# Altium integrated library ledclock-yassinn-V1.00.IntLib: 13 symbols
Pins are listed as number, name and electrical type; pins without a type are passive.

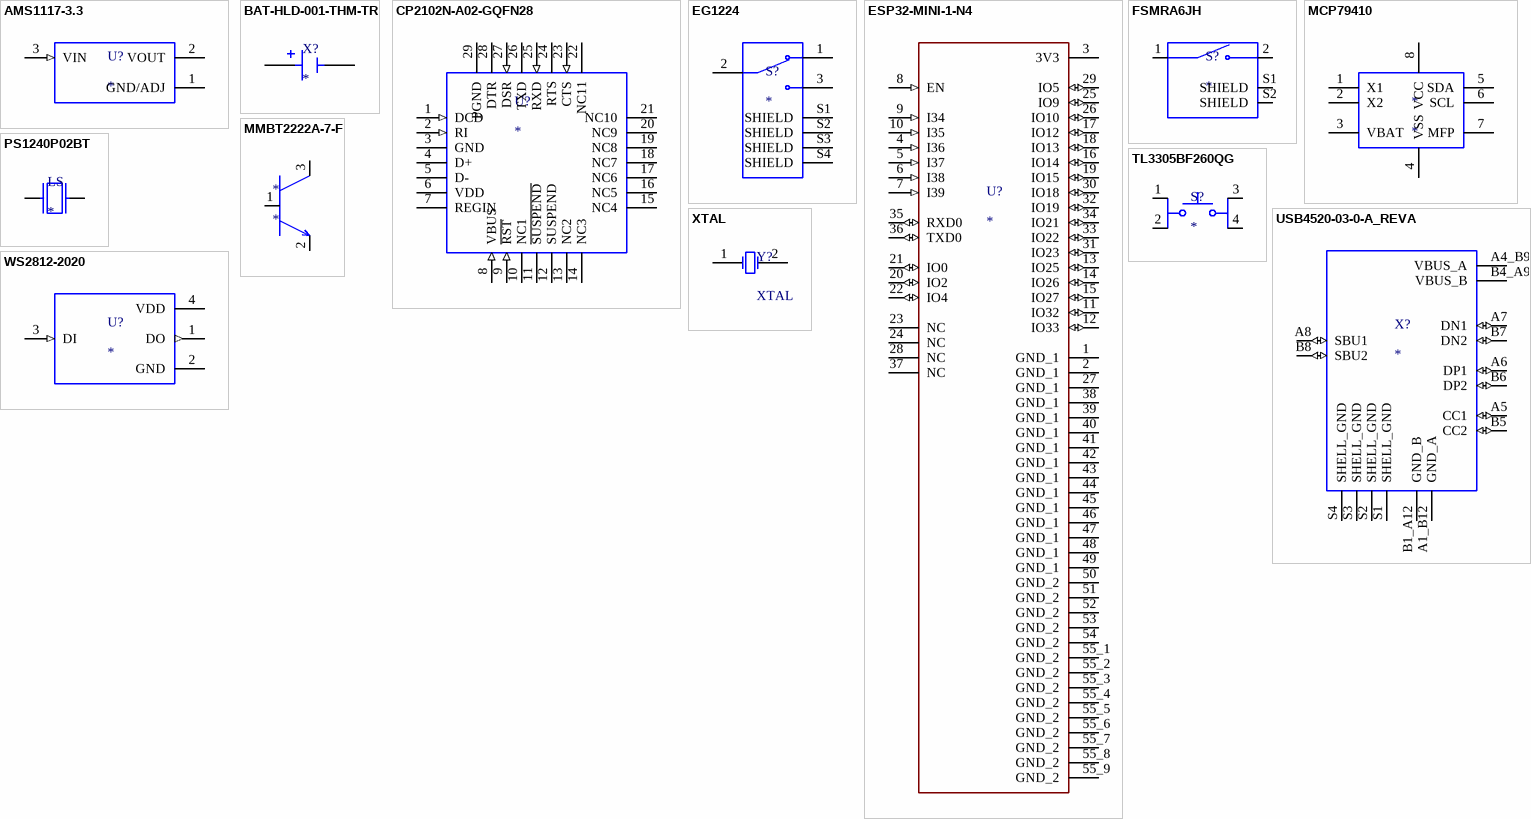
[diagram p0: symbols AMS1117-3.3 to XTAL]

## AMS1117-3.3
designator U?
Sot223/Pkg 1-Amp 3.3-Volt Low Drop Out Voltage Regulatator; MF: Advanced Monolithic Systems; MP: AMS1117-3.3; Package: SOT-223 Seeed Technology; Value: *; Check_prices: https://www.snapeda.com/parts/AMS1117-3.3/Advanced+Monolithic+Systems/view-part/?ref=eda; Price: None; Availability: Not in stock; SnapEDA_Link: https://www.snapeda.com/parts/AMS1117-3.3/Advanced+Monolithic+Systems/view-part/?ref=snap
footprint SOT229P700X180-4N (Voltage Reg)
pins: 1 GND/ADJ (power), 2 VOUT (power), 3 VIN (in)

## BAT-HLD-001-THM-TR
designator X?
Holder for CR2032 and CR2025 Batteries, Through-Hole Mount, Tape and Reel Packaging; MF: Linx Technologies; MP: BAT-HLD-001-THM-TR; Package: None; Price: None; Availability: In Stock; Check_prices: https://www.snapeda.com/parts/BAT-HLD-001-THM-TR/Linx/view-part/90434/?ref=eda; SnapEDA_Link: https://www.snapeda.com/parts/BAT-HLD-001-THM-TR/Linx/view-part/90434/?ref=snap; Value: *
footprint CONNSMDBATHLD001 (Batt-Holder)
pins: N, P1 P, P2 P, P3 P, P4 P

## CP2102N-A02-GQFN28
designator U?
footprint QFN50P500X500X80-29N
pins: 1 DCD (in), 2 RI (in), 3 GND, 4 D+, 5 D-, 6 VDD, 7 REGIN, 8 VBUS (in), 9 ~{RST} (in), 10 NC1, 11 ~{SUSPEND}, 12 SUSPEND, 13 NC2, 14 NC3, 15 NC4, 16 NC5, 17 NC6, 18 NC7, 19 NC8, 20 NC9, 21 NC10, 22 NC11, 23 CTS (in), 24 RTS, 25 RXD (in), 26 TXD, 27 DSR (in), 28 DTR, 29 PGND

## EG1224
designator S?
Slide Switch SPDT Through Hole, Right Angle; MF: E-Switch; MP: EG1224; SnapEDA_Link: https://www.snapeda.com/parts/EG1224/E-Switch/view-part/?ref=snap; Package: None; Value: *; Check_prices: https://www.snapeda.com/parts/EG1224/E-Switch/view-part/?ref=eda
footprint SW_EG1224
pins: 1, 2, 3, S1 SHIELD, S2 SHIELD, S3 SHIELD, S4 SHIELD

## ESP32-MINI-1-N4
designator U?
Bluetooth, WiFi 802.11b/g/n, Bluetooth v4.2 +EDR, Class 1, 2 and 3 Transceiver Module 2.412GHz ~ 2.484GHz Integrated, Trace Chassis Mount; MF: Espressif Systems; MP: ESP32-MINI-1-N4; SnapEDA_Link: https://www.snapeda.com/parts/ESP32-MINI-1-N4/Espressif+Systems/view-part/?ref=snap; Package: Module Espressif Systems; Value: *; Check_prices: https://www.snapeda.com/parts/ESP32-MINI-1-N4/Espressif+Systems/view-part/?ref=eda
footprint XCVR_ESP32-MINI-1-N4
pins: 1 GND_1 (power), 2 GND_1 (power), 3 3V3 (power), 4 I36 (in), 5 I37 (in), 6 I38 (in), 7 I39 (in), 8 EN (in), 9 I34 (in), 10 I35 (in), 11 IO32 (io), 12 IO33 (io), 13 IO25 (io), 14 IO26 (io), 15 IO27 (io), 16 IO14 (io), 17 IO12 (io), 18 IO13 (io), 19 IO15 (io), 20 IO2 (io), 21 IO0 (io), 22 IO4 (io), 23 NC, 24 NC, 25 IO9 (io), 26 IO10 (io), 27 GND_1 (power), 28 NC, 29 IO5 (io), 30 IO18 (io), 31 IO23 (io), 32 IO19 (io), 33 IO22 (io), 34 IO21 (io), 35 RXD0 (io), 36 TXD0 (io), 37 NC, 38 GND_1 (power), 39 GND_1 (power), 40 GND_1 (power), 41 GND_1 (power), 42 GND_1 (power), 43 GND_1 (power), 44 GND_1 (power), 45 GND_1 (power), 46 GND_1 (power), 47 GND_1 (power), 48 GND_1 (power), 49 GND_1 (power), 50 GND_2 (power), 51 GND_2 (power), 52 GND_2 (power), 53 GND_2 (power), 54 GND_2 (power), 55_1 GND_2 (power), 55_2 GND_2 (power), 55_3 GND_2 (power), 55_4 GND_2 (power), 55_5 GND_2 (power), 55_6 GND_2 (power), 55_7 GND_2 (power), 55_8 GND_2 (power), 55_9 GND_2 (power)

## FSMRA6JH
designator S?
Tactile Switch SPST-NO Side Actuated Through Hole, Right Angle; MF: TE Connectivity; MP: FSMRA6JH; SnapEDA_Link: https://www.snapeda.com/parts/FSMRA6JH/TE+Connectivity+ALCOSWITCH+Switches/view-part/?ref=snap; Package: None; Value: *; Check_prices: https://www.snapeda.com/parts/FSMRA6JH/TE+Connectivity+ALCOSWITCH+Switches/view-part/?ref=eda
footprint SW_FSMRA6JH
pins: 1 COM, 2 NO, S1 SHIELD, S2 SHIELD

## MCP79410
designator *
footprint SOIC-SN8 (RTC)
pins: 1 X1, 2 X2, 3 VBAT, 4 VSS, 5 SDA, 6 SCL, 7 MFP, 8 VCC

## MMBT2222A-7-F
designator *
footprint SOT103P240X110-3N (transistor)
pins: 1 B, 2 E, 3 C

## PS1240P02BT
designator LS
Buzzers Transducer, Externally Driven Piezo 3V 4kHz 60dB @ 3V, 10cm Through Hole PC Pins; MP: PS1240P02BT; MF: TDK; Availability: Unavailable; Package: 2020 TDK; Value: *; Price: None; SnapEDA_Link: https://www.snapeda.com/parts/PS1240P02BT/TDK/view-part/53420/?ref=snap
footprint XDCR_PS1240P02BT (Buzzer)
pins: 1, 2

## TL3305BF260QG
designator S?
Tactile Switch SPST-NO Top Actuated Surface Mount; MP: TL3305BF260QG; MF: E-Switch; Value: *; Purchase-URL: https://pricing.snapeda.com/search/part/TL3305BF260QG/?ref=eda; Package: None; Digi-Key_Part_Number: EG5354TR-ND
footprint SW_TL3305BF260QG
pins: 1, 2, 3, 4

## USB4520-03-0-A_REVA
designator X?
USB-C (USB TYPE-C) USB 2.0 Receptacle Connector 24 (16+8 Dummy) Position Board Edge, Cutout; Surface Mount; Through Hole, Right Angle; MP: USB4520-03-0-A; MF: Global Connector Technology; Value: *; Check_prices: https://www.snapeda.com/parts/USB4520-03-0-A/Global+Connector+Technology/view-part/?ref=eda; Package: None; Price: None; Availability: In Stock; Purchase-URL: https://pricing.snapeda.com/search/part/USB4520-03-0-A/?ref=eda; SnapEDA_Link: https://www.snapeda.com/parts/USB4520-03-0-A/Global+Connector+Technology/view-part/?ref=snap
footprint GCT_USB4520-03-0-A_REVA (USB-C)
pins: A1_B12 GND_A (power), A4_B9 VBUS_A (power), A5 CC1 (io), A6 DP1 (io), A7 DN1 (io), A8 SBU1 (io), B1_A12 GND_B (power), B4_A9 VBUS_B (power), B5 CC2 (io), B6 DP2 (io), B7 DN2 (io), B8 SBU2 (io), S1 SHELL_GND (power), S2 SHELL_GND (power), S3 SHELL_GND (power), S4 SHELL_GND (power)

## WS2812-2020
designator U?
Intelligent control LED light source, SMD-4; MP: WS2812-2020; MF: Worldsemi; Availability: Not in stock; Package: Package; SnapEDA_Link: https://www.snapeda.com/parts/WS2812-2020/Worldsemi/view-part/?ref=snap; Check_prices: https://www.snapeda.com/parts/WS2812-2020/Worldsemi/view-part/?ref=eda; Value: *; Price: None
footprint LED_WS2812-2020
pins: 1 DO (out), 2 GND (power), 3 DI (in), 4 VDD (power)

## XTAL
designator Y?
Crystal Oscillator 32.768kHz, 7pF LOAD CAPACITANCE; Published: 8-Jun-2000; LatestRevisionDate: 17-Jul-2002; LatestRevisionNote: Re-released for DXP Platform.; PackageReference: R38; Publisher: Altium Limited; PackageDescription: Crystal, Thru-Hole; 2 Leads; Body 3.1 x 8.2 mm (Dia.xH)
footprint XTAL_32 (Quartz)
pins: 1 OSC1, 2 OSC2